# Altium footprint library diode.PCBLIB: 206 footprints (part 9 of 13)
Each footprint in its own frame and in the unit in brackets; x right, y up, seen from the top. Pads: shape width x height; smd on the part's side, far side on the other; paste and mask are expansions set on the pad; w line width, h text height; cw(c..) or ccw(c..) is an arc to the next point about the centre after c.
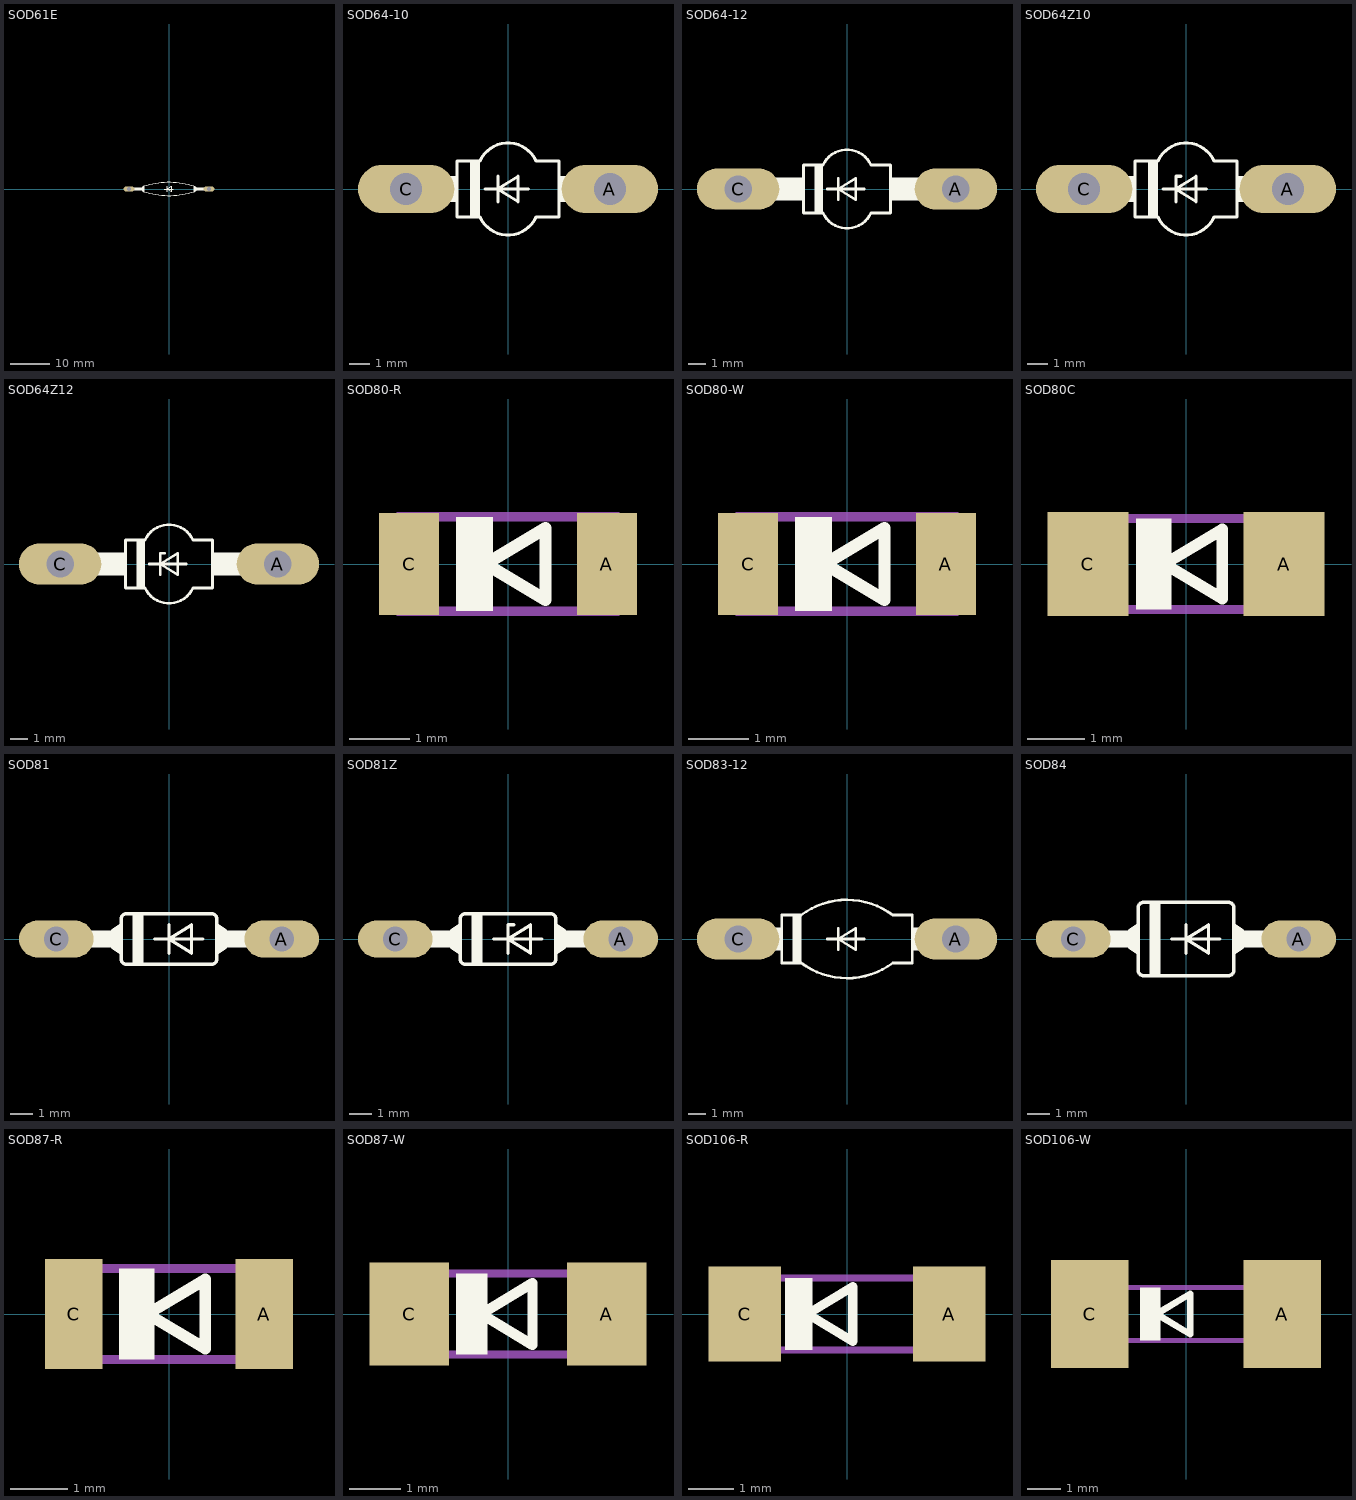
[diagram p8: the footprints below, top view; thin cyan lines are the x and y axes]

## SOD61E [mil]
pads (2):
  oval 108x54 hole 36: A(400,0) C(-400,0)
Top Overlay:
  rectangle: 250,-15 265,15
  rectangle: -265,-15 -250,15
  rectangle: 265,-13 357,13
  rectangle: -357,-13 -265,13
  lines w6: -248.67,-25.45 ccw(c0,717.01) 250,-25 ; -45,0 -20,0 ; -20,-25 -20,0 ; -20,25 -20,0 ; 40,0 -20,0 ; 248.67,25.45 ccw(c0,-717.01) -250,25 ; -265,-15 -265,15 ; -265,-15 -250,-25 -250,-20 ; -265,-15 -260,-15 ; -265,15 -250,25 ; -265,15 -260,15 ; -260,-15 -250,-20 ; -260,-15 -250,-15 ; -260,15 -250,20 ; -260,15 -250,15 ; -250,-20 -250,-15 ; -250,-15 -250,15 ; -250,15 -250,20 ; -250,20 -250,25 ; -20,0 20,-25 20,25 -20,0 ; 250,-25 265,-15 ; 250,-25 250,-20 ; 250,-20 260,-15 ; 250,-20 250,-15 ; 250,-15 260,-15 ; 250,-15 250,15 ; 250,15 260,15 ; 250,15 250,20 ; 250,20 260,15 ; 250,20 250,25 265,15 ; 260,-15 265,-15 ; 260,15 265,15 ; 265,-15 265,15
Mechanical 16:
  lines w26: -400,0 -360,0 ; 360,0 400,0

## SOD64-10 [mil]
pads (2):
  oval 189x94.5 hole 63: A(200,0) C(-200,0)
Top Overlay:
  rectangle: -75,-55 -55,55
  rectangle: 100,-26 131,26
  rectangle: -131,-26 -100,26
  lines w6: -45,0 -20,0 ; -20,-25 -20,0 ; -20,25 -20,0 ; 40,0 -20,0 ; -20,0 20,-25 20,25 -20,0 ; -100,-55 -100,55 -55,55 cw(c0,30) 55,55 100,55 100,-55 55,-55 cw(c0,-30) -55,-55 -100,-55
Mechanical 16:
  lines w54: -200,0 -140,0 ; 140,0 200,0

## SOD64-12 [mil]
pads (2):
  oval 189x94.5 hole 63: A(250,0) C(-250,0)
Top Overlay:
  rectangle: -75,-55 -55,55
  rectangle: 100,-26 180,26
  rectangle: -180,-26 -100,26
  lines w6: -45,0 -20,0 ; -20,-25 -20,0 ; -20,25 -20,0 ; 40,0 -20,0 ; -20,0 20,-25 20,25 -20,0 ; -100,-55 -100,55 -55,55 cw(c0,30) 55,55 100,55 100,-55 55,-55 cw(c0,-30) -55,-55 -100,-55
Mechanical 16:
  lines w54: -250,0 -190,0 ; 190,0 250,0

## SOD64Z10 [mil]
pads (2):
  oval 189x94.5 hole 63: A(200,0) C(-200,0)
Top Overlay:
  rectangle: -75,-55 -55,55
  rectangle: 100,-26 131,26
  rectangle: -131,-26 -100,26
  lines w6: -45,0 -20,0 ; -20,-25 -20,0 ; -10,25 -20,25 -20,0 ; 40,0 -20,0 ; -20,0 20,-25 20,25 -20,0 ; -100,-55 -100,55 -55,55 cw(c0,30) 55,55 100,55 100,-55 55,-55 cw(c0,-30) -55,-55 -100,-55
Mechanical 16:
  lines w54: -200,0 -140,0 ; 140,0 200,0

## SOD64Z12 [mil]
pads (2):
  oval 189x94.5 hole 63: A(250,0) C(-250,0)
Top Overlay:
  rectangle: -75,-55 -55,55
  rectangle: 100,-26 180,26
  rectangle: -180,-26 -100,26
  lines w6: -45,0 -20,0 ; -20,-25 -20,0 ; -10,25 -20,25 -20,0 ; 40,0 -20,0 ; -20,0 20,-25 20,25 -20,0 ; -100,-55 -100,55 -55,55 cw(c0,30) 55,55 100,55 100,-55 55,-55 cw(c0,-30) -55,-55 -100,-55
Mechanical 16:
  lines w54: -250,0 -190,0 ; 190,0 250,0

## SOD80-R [mm]
pads (2):
  rect 1x1.7 smd: A(1.65,0) C(-1.65,0)
Top Overlay:
  rectangle: -0.864,-0.787 -0.254,0.787
  lines w0.203: -0.373,0 0.627,0.6 0.627,-0.6 -0.373,0
Mechanical 16:
  rectangle: -1.854,-0.864 -1.295,0.864
  rectangle: 1.295,-0.864 1.854,0.864
  lines w0.152: -1.321,-0.787 1.321,-0.787 ; -1.321,0.787 1.321,0.787

## SOD80-W [mm]
pads (2):
  rect 1x1.7 smd: A(1.65,0) C(-1.65,0)
Top Overlay:
  rectangle: -0.864,-0.787 -0.254,0.787
  lines w0.203: -0.373,0 0.627,-0.6 0.627,0.6 -0.373,0
Mechanical 16:
  rectangle: 1.295,-0.864 1.854,0.864
  rectangle: -1.854,-0.864 -1.295,0.864
  lines w0.152: -1.321,-0.787 1.321,-0.787 ; -1.321,0.787 1.321,0.787

## SOD80C [mil]
pads (2):
  rect 55.12x70.87 smd: A(66.93,0) C(-66.93,0)
Top Overlay:
  rectangle: -34,-31 -10,31
  lines w8: -14.69,0 24.69,-23.62 24.69,23.62 -14.69,0
Mechanical 16:
  rectangle: 51,-34 73,34
  rectangle: -73,-34 -51,34
  lines w6: -52,-31 52,-31 ; -52,31 52,31
3D body: height 62.99, standoff 0, extent -74.01,-31.49 71.66,31.5

## SOD81 [mil]
pads (2):
  oval 132x66 hole 44: A(200,0) C(-200,0)
Top Overlay:
  rectangle: -65,-45 -45,45
  rectangle: -155,-15 -85,15
  rectangle: 85,-15 155,15
  lines w6: -25,0 0,0 ; 0,-25 0,0 ; 0,25 0,0 ; 60,0 0,0 ; -100,-15 -100,15 ; -100,-15 -85,-25 ; -100,-15 -95,-15 ; -100,15 -85,25 ; -100,15 -95,15 ; -95,-15 -85,-20 ; -95,-15 -85,-15 ; -95,15 -85,20 ; -95,15 -85,15 ; -85,-25 -85,-35 ccw(c-75,-35) -75,-45 75,-45 ccw(c75,-35) 85,-35 85,-25 ; -85,-25 -85,-20 ; -85,-20 -85,-15 ; -85,-15 -85,15 ; -85,15 -85,20 ; -85,20 -85,25 ; -85,25 -85,35 cw(c-75,35) -75,45 75,45 cw(c75,35) 85,35 85,25 ; 0,0 40,-25 40,25 0,0 ; 85,-25 100,-15 ; 85,-25 85,-20 ; 85,-20 95,-15 ; 85,-20 85,-15 ; 85,-15 95,-15 ; 85,-15 85,15 ; 85,15 95,15 ; 85,15 85,20 ; 85,20 95,15 ; 85,20 85,25 ; 85,25 100,15 ; 95,-15 100,-15 ; 95,15 100,15 ; 100,-15 100,15
Mechanical 16:
  lines w30: -200,0 -160,0 ; 160,0 200,0

## SOD81Z [mil]
pads (2):
  oval 132x66 hole 44: A(200,0) C(-200,0)
Top Overlay:
  rectangle: -65,-45 -45,45
  rectangle: -155,-15 -85,15
  rectangle: 85,-15 155,15
  lines w6: -25,0 0,0 ; 0,-25 0,0 ; 10,25 0,25 0,0 ; 60,0 0,0 ; -100,-15 -100,15 ; -100,-15 -85,-25 ; -100,-15 -95,-15 ; -100,15 -85,25 ; -100,15 -95,15 ; -95,-15 -85,-20 ; -95,-15 -85,-15 ; -95,15 -85,20 ; -95,15 -85,15 ; -85,-25 -85,-35 ccw(c-75,-35) -75,-45 75,-45 ccw(c75,-35) 85,-35 85,-25 ; -85,-25 -85,-20 ; -85,-20 -85,-15 ; -85,-15 -85,15 ; -85,15 -85,20 ; -85,20 -85,25 ; -85,25 -85,35 cw(c-75,35) -75,45 75,45 cw(c75,35) 85,35 85,25 ; 0,0 40,-25 40,25 0,0 ; 85,-25 100,-15 ; 85,-25 85,-20 ; 85,-20 95,-15 ; 85,-20 85,-15 ; 85,-15 95,-15 ; 85,-15 85,15 ; 85,15 95,15 ; 85,15 85,20 ; 85,20 95,15 ; 85,20 85,25 ; 85,25 100,15 ; 95,-15 100,-15 ; 95,15 100,15 ; 100,-15 100,15
Mechanical 16:
  lines w30: -200,0 -160,0 ; 160,0 200,0

## SOD83-12 [mil]
pads (2):
  oval 189x94.5 hole 63: A(250,0) C(-250,0)
Top Overlay:
  rectangle: -125,-55 -105,55
  rectangle: 150,-26 182,26
  rectangle: -182,-26 -150,26
  lines w6: -105.67,-54.49 ccw(c0,85) 105,-55 150,-55 150,55 105,55 ; -105,-55 -150,-55 -150,55 -105,55 cw(c0,-85) 105.67,54.49 ; -45,0 -20,0 ; -20,-25 -20,0 ; -20,25 -20,0 ; 40,0 -20,0 ; -20,0 20,-25 20,25 -20,0
Mechanical 16:
  lines w54: -250,0 -190,0 ; 190,0 250,0

## SOD84 [mil]
pads (2):
  oval 132x66 hole 44: A(200,0) C(-200,0)
Top Overlay:
  rectangle: -155,-15 -85,15
  rectangle: 85,-15 155,15
  rectangle: -65,-65 -45,65
  lines w6: -25,0 0,0 ; 0,-25 0,0 ; 0,25 0,0 ; 60,0 0,0 ; -100,-15 -100,15 ; -100,-15 -85,-25 ; -100,-15 -95,-15 ; -100,15 -85,25 ; -100,15 -95,15 ; -95,-15 -85,-20 ; -95,-15 -85,-15 ; -95,15 -85,20 ; -95,15 -85,15 ; -85,-25 -85,-55 ccw(c-75,-55) -75,-65 75,-65 ccw(c75,-55) 85,-55 85,-25 ; -85,-25 -85,-20 ; -85,-20 -85,-15 ; -85,-15 -85,15 ; -85,15 -85,20 ; -85,20 -85,25 ; -85,25 -85,55 cw(c-75,55) -75,65 75,65 cw(c75,55) 85,55 85,25 ; 0,0 40,-25 40,25 0,0 ; 85,-25 100,-15 ; 85,-25 85,-20 ; 85,-20 95,-15 ; 85,-20 85,-15 ; 85,-15 95,-15 ; 85,-15 85,15 ; 85,15 95,15 ; 85,15 85,20 ; 85,20 95,15 ; 85,20 85,25 ; 85,25 100,15 ; 95,-15 100,-15 ; 95,15 100,15 ; 100,-15 100,15
Mechanical 16:
  lines w30: -200,0 -160,0 ; 160,0 200,0

## SOD87-R [mm]
pads (2):
  rect 1x1.9 smd: A(1.65,0) C(-1.65,0)
Top Overlay:
  rectangle: -0.864,-0.787 -0.254,0.787
  lines w0.203: -0.373,0 0.627,0.6 0.627,-0.6 -0.373,0
Mechanical 16:
  rectangle: -1.854,-0.864 -1.295,0.864
  rectangle: 1.295,-0.864 1.854,0.864
  lines w0.152: -1.321,-0.787 1.321,-0.787 ; -1.321,0.787 1.321,0.787

## SOD87-W [mm]
pads (2):
  rect 1.55x2 smd: A(1.925,0) C(-1.925,0)
Top Overlay:
  rectangle: -1.014,-0.787 -0.404,0.787
  lines w0.203: -0.523,0 0.477,0.6 0.477,-0.6 -0.523,0
Mechanical 16:
  rectangle: -2.004,-0.864 -1.446,0.864
  rectangle: 1.446,-0.864 2.004,0.864
  lines w0.152: -1.471,-0.787 1.471,-0.787 ; -1.471,0.787 1.471,0.787

## SOD106-R [mil]
pads (2):
  rect 62.99x82.68 smd: A(88.58,0) C(-88.58,0)
Top Overlay:
  rectangle: -53.69,-31 -29.69,31
  lines w8: -34.37,0 5,23.62 5,-23.62 -34.37,0
Mechanical 16:
  rectangle: -92.69,-34 -70.69,34
  rectangle: 70.69,-34 92.69,34
  lines w6: -71.69,-31 71.69,-31 ; -71.69,31 71.69,31

## SOD106-W [mil]
pads (2):
  rect 90.55x125.98 smd: A(112.2,0) C(-112.2,0)
Top Overlay:
  rectangle: -53.69,-31 -29.69,31
  lines w8: -34.37,0 5,23.62 5,-23.62 -34.37,0
Mechanical 16:
  rectangle: -92.69,-34 -70.69,34
  rectangle: 70.69,-34 92.69,34
  lines w6: -71.69,-31 71.69,-31 ; -71.69,31 71.69,31